# Altium integrated library Transistor.IntLib: 1 symbol
Pins are listed as number, name and electrical type; pins without a type are passive.

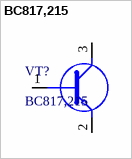
[diagram p0: symbol BC817,215]

## BC817,215
designator VT?
footprint BC817,215
pins: 1 B, 2 E, 3 C